# Altium footprint library JST_BM03B-SRSS-TB(LF)(SN).PcbLib: 1 footprints
Each footprint in its own frame and in the unit in brackets; x right, y up, seen from the top. Pads: shape width x height; smd on the part's side, far side on the other; paste and mask are expansions set on the pad; w line width, h text height; cw(c..) or ccw(c..) is an arc to the next point about the centre after c.
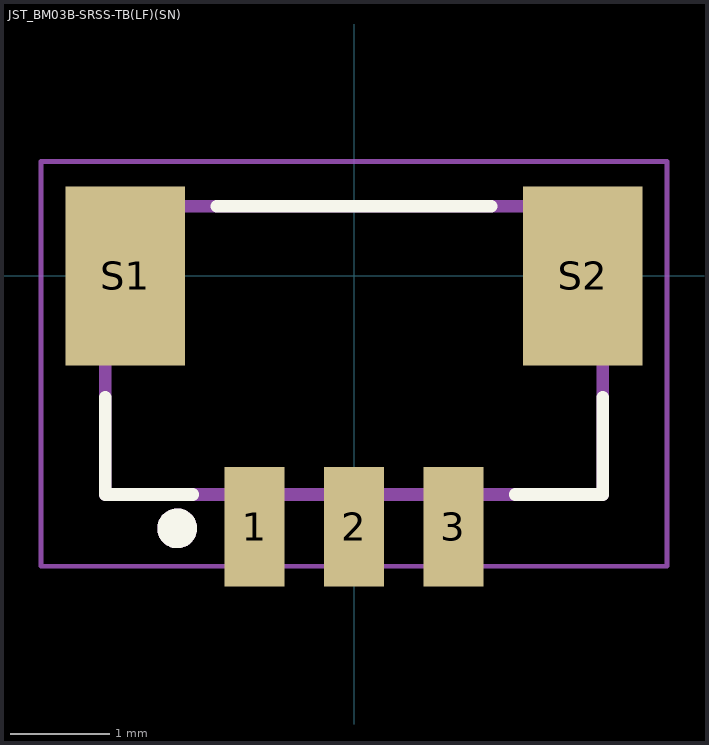
[diagram p0: the footprint, top view; thin cyan lines are the x and y axes]

## JST_BM03B-SRSS-TB(LF)(SN) [mm]
height 6.3
pads (5):
  rect 0.6x1.2 smd: 1(-1,-2.525) 2(0,-2.525) 3(1,-2.525)
  rect 1.2x1.8 smd: S1(-2.3,0) S2(2.3,0)
Top Overlay:
  circle w0.2: c-1.778,-2.54 r0.1
  lines w0.127: -2.5,-1.22 -2.5,-2.2 -1.62,-2.2 ; -1.38,0.7 1.38,0.7 ; 1.62,-2.2 2.5,-2.2 2.5,-1.22
Mechanical 13:
  circle w0.2: c-1.778,-2.54 r0.1
  lines w0.127: -2.5,-2.2 -2.5,0.7 2.5,0.7 2.5,-2.2 -2.5,-2.2
Mechanical 15:
  lines w0.05: -3.15,-2.921 3.15,-2.921 3.15,1.15 -3.15,1.15 -3.15,-2.921
3D body "step_temp.STEP": height 4.35, standoff 0, extent -2.5,-2.15 2.5,1.45